# Altium footprint library FishWand_pcbLib.PcbLib: 35 footprints (part 1 of 3)
Each footprint in its own frame and in the unit in brackets; x right, y up, seen from the top. Pads: shape width x height; smd on the part's side, far side on the other; paste and mask are expansions set on the pad; w line width, h text height; cw(c..) or ccw(c..) is an arc to the next point about the centre after c.
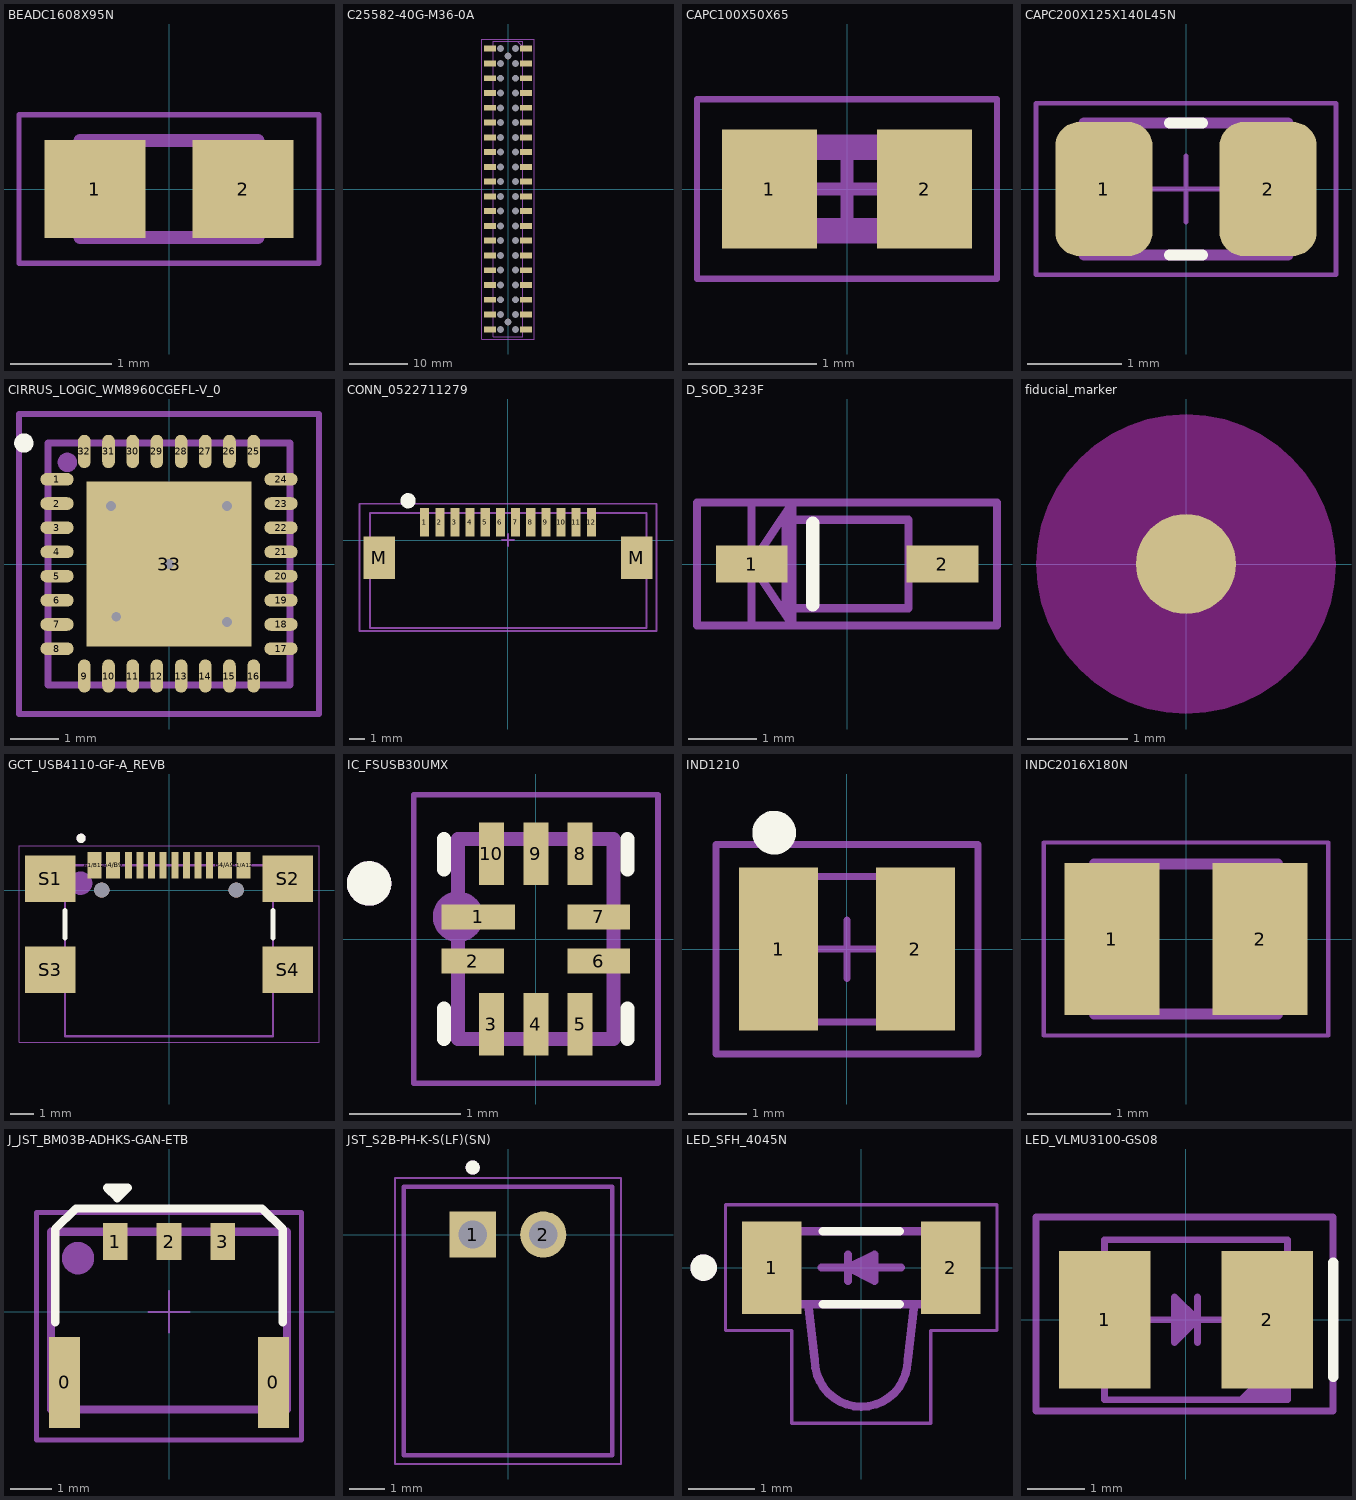
[diagram p0: the footprints below, top view; thin cyan lines are the x and y axes]

## BEADC1608X95N [mm]
pads (2):
  rect 1x0.97 smd: 1(-0.735,0) 2(0.735,0)
Assembly Text Top:
  text ".Designator" at -1.2,-0.2 h1
Assembly Top:
  lines w0.05: -1.485,-0.735 1.485,-0.735 1.485,0.735 -1.485,0.735 -1.485,-0.735
3D Top:
  lines w0.127: -0.88,-0.48 -0.88,0.48 0.88,0.48 0.88,-0.48 -0.88,-0.48
Courtyard Top:
  lines w0.05: -1.485,-0.735 -1.485,0.735 1.485,0.735 1.485,-0.735 -1.485,-0.735
3D body: height 0.75, standoff 0, extent -0.88,-0.48 0.88,0.48

## C25582-40G-M36-0A [mm] "Header, 40 Position, 2.54 mm Pitch, Shrouded, Female, Receptacle, Vertical, SMD"
height 3.8
pads (83):
  rect 2.1x1.02 smd: 1(3.1,24.13) 2(-3.1,24.13) 3(3.1,21.59) 4(-3.1,21.59) 5(3.1,19.05) 6(-3.1,19.05) 7(3.1,16.51) 8(-3.1,16.51) 9(3.1,13.97) 10(-3.1,13.97) 11(3.1,11.43) 12(-3.1,11.43) 13(3.1,8.89) 14(-3.1,8.89) 15(3.1,6.35) 16(-3.1,6.35) 17(3.1,3.81) 18(-3.1,3.81) 19(3.1,1.27) 20(-3.1,1.27) 21(3.1,-1.27) 22(-3.1,-1.27) 23(3.1,-3.81) 24(-3.1,-3.81) 25(3.1,-6.35) 26(-3.1,-6.35) 27(3.1,-8.89) 28(-3.1,-8.89) 29(3.1,-11.43) 30(-3.1,-11.43) 31(3.1,-13.97) 32(-3.1,-13.97) 33(3.1,-16.51) 34(-3.1,-16.51) 35(3.1,-19.05) 36(-3.1,-19.05) 37(3.1,-21.59) 38(-3.1,-21.59) 39(3.1,-24.13) 40(-3.1,-24.13)
  rect 0x0 hole 1.2 unplated: ""(-1.27,-24.13) ""(-1.27,-21.59) ""(-1.27,-19.05) ""(-1.27,-16.51) ""(-1.27,-13.97) ""(-1.27,-11.43) ""(-1.27,-8.89) ""(-1.27,-6.35) ""(-1.27,-3.81) ""(-1.27,-1.27) ""(-1.27,1.27) ""(-1.27,3.81) ""(-1.27,6.35) ""(-1.27,8.89) ""(-1.27,8.89) ""(-1.27,11.43) ""(-1.27,13.97) ""(-1.27,16.51) ""(-1.27,19.05) ""(-1.27,21.59) ""(-1.27,24.13) ""(0,-22.86) ""(0,22.86) ""(1.27,-24.13) ""(1.27,-21.59) ""(1.27,-19.05) ""(1.27,-16.51) ""(1.27,-13.97) ""(1.27,-11.43) ""(1.27,-8.89) ""(1.27,-6.35) ""(1.27,-3.81) ""(1.27,-1.27) ""(1.27,1.27) ""(1.27,3.81) ""(1.27,6.35) ""(1.27,8.89) ""(1.27,11.43) ""(1.27,13.97) ""(1.27,16.51) ""(1.27,19.05) ""(1.27,21.59) ""(1.27,24.13)
Assembly Text Top:
  text ".designator" at 0,0 h2
Assembly Top:
  lines w0.12: -2.54,-25.4 -2.54,25.4 1.6,25.4 2.54,24.46 2.54,-25.4 -2.54,-25.4
3D Top:
  lines w0.12: -2.54,-25.4 2.54,-25.4 2.54,25.4 -2.54,25.4 -2.54,-25.4
Courtyard Top:
  lines w0.12: -4.5,-25.8 4.5,-25.8 4.5,25.8 -4.5,25.8 -4.5,25.5 -4.5,-25.6 -4.5,-25.8
3D body: height 3.8, standoff 0, extent -2.54,-25.4 2.54,25.4

## CAPC100X50X65 [mm] "0402"
height 0.65
pads (2):
  rect 0.74x0.93 smd: 1(-0.605,0) 2(0.605,0)
Assembly Text Top:
  text ".designator" at -0.8,-0.2 h1
Assembly Top:
  lines w0.05: -1.17,-0.7 -1.17,0.7 1.17,0.7 1.17,-0.7 -1.17,-0.7
3D Top:
  lines w0.2: -0.575,-0.325 0.575,-0.325 0.575,0.325 -0.575,0.325 -0.575,-0.325
Courtyard Top:
  lines w0.05: -1.17,-0.7 1.17,-0.7 1.17,0.7 -1.17,0.7 -1.17,-0.7
  lines w0.1: -0.325,0 0.325,0 ; 0,-0.325 0,0.325
3D body: height 0.65, standoff 0, extent 0.325,-0.325 0.575,0.325
3D body: height 0.65, standoff 0, extent -0.575,-0.325 -0.325,0.325
3D body: height 0.65, standoff 0, extent -0.325,-0.325 0.325,0.325

## CAPC200X125X140L45N [mm] "Capacitor, Chip; 2.00 mm L X 1.25 mm W X 1.40 mm H body"
height 1.4
pads (2):
  rrect49% 1.03x1.42 smd: 1(-0.87,0) 2(0.87,0)
Top Overlay:
  lines w0.12: -0.175,-0.7 0.175,-0.7 ; -0.175,0.7 0.175,0.7
Assembly Text Top:
  text ".Designator" at -0.9,-0.4 h1
Assembly Top:
  lines w0.05: -1.59,-0.91 1.59,-0.91 1.59,0.91 -1.59,0.91 -1.59,-0.91
3D Top:
  lines w0.12: -1.08,-0.7 -1.08,0.7 1.08,0.7 1.08,-0.7 -1.08,-0.7
Courtyard Top:
  lines w0.05: -0.35,0 0.35,0 ; 0,-0.35 0,0.35 ; -1.59,-0.91 -1.59,0.91 1.59,0.91 1.59,-0.91 -1.59,-0.91
3D body: height 1.4, standoff 0, extent -1.075,-0.7 1.075,0.7

## CIRRUS_LOGIC_WM8960CGEFL-V_0 [mm]
pads (33):
  oval 0.69x0.26 smd: 1(-2.315,1.75)
  rrect100% 0.69x0.26 smd: 2(-2.315,1.25) 3(-2.315,0.75) 4(-2.315,0.25) 5(-2.315,-0.25) 6(-2.315,-0.75) 7(-2.315,-1.25) 8(-2.315,-1.75) 17(2.315,-1.75) 18(2.315,-1.25) 19(2.315,-0.75) 20(2.315,-0.25) 21(2.315,0.25) 22(2.315,0.75) 23(2.315,1.25) 24(2.315,1.75)
  rrect100% 0.26x0.69 smd: 9(-1.75,-2.315) 10(-1.25,-2.315) 11(-0.75,-2.315) 12(-0.25,-2.315) 13(0.25,-2.315) 14(0.75,-2.315) 15(1.25,-2.315) 16(1.75,-2.315) 25(1.75,2.326) 26(1.25,2.326) 27(0.75,2.326) 28(0.25,2.326) 29(-0.25,2.326) 30(-0.75,2.326) 31(-1.25,2.326) 32(-1.75,2.326)
  rect 3.4x3.4 smd paste-5: 33(0,0)
via -1.2,1.2 diameter 0.6 hole 0.2
via 1.2,1.2 diameter 0.6 hole 0.2
via -1.091,-1.091 diameter 0.6 hole 0.2
via 0,0 diameter 0.6 hole 0.2
via 1.2,-1.2 diameter 0.6 hole 0.2
Top Overlay:
  circle w0.2: c-3,2.5 r0.1
Top Paste:
  region: -1.091,-1.091 -1.091,1.091 1.091,1.091 1.091,-1.091
Assembly Text Top:
  text ".Designator" at -1.4,-0.2 h1.25
Assembly Top:
  circle w0.2: c-2.1,2.1 r0.1
  lines w0.15: -2.5,-2.5 2.5,-2.5 2.5,2.5 -2.5,2.5 -2.5,-2.5
3D Top:
  lines w0.12: -2.5,-2.5 -2.5,2.5 2.5,2.5 2.5,-2.5 -2.5,-2.5
Courtyard Top:
  lines w0.12: -3.1,-3.1 3.1,-3.1 3.1,3.1 -2.5,3.1 -3.1,3.1 -3.1,-3.1
3D body: height 1, standoff 0, extent -2.5,-2.5 2.5,2.5
3D body: height 1.01, standoff 0, extent -2.279,1.95 -1.98,2.25

## CONN_0522711279 [mm] "Molex 0522711279"
height 2.7
pads (14):
  rect 0.6x1.9 smd: 1(-5.5,1.175) 2(-4.5,1.175) 3(-3.5,1.175) 4(-2.5,1.175) 5(-1.5,1.175) 6(-0.5,1.175) 7(0.5,1.175) 8(1.5,1.175) 9(2.5,1.175) 10(3.5,1.175) 11(4.5,1.175) 12(5.5,1.175)
  rect 2.1x2.8 smd: M(-8.5,-1.175) M(8.5,-1.175)
Top Overlay:
  circle w0.5: c-6.6,2.6 r0.25
Assembly Text Top:
  text ".designator" at -0.3,-1.7 h0.75
Assembly Top:
  lines w0.12: -9.1,-5.8 -9.1,1.8 9.15,1.8 9.15,-5.8 -9.1,-5.8
3D Top:
  lines w0.12: -9.1,-5.8 -9.1,1.8 9.15,1.8 9.15,-5.8 -9.1,-5.8
Courtyard Top:
  lines w0.12: -0.4,0 0.4,0 ; 0,-0.4 0,0.4 ; -9.8,-6 9.8,-6 9.8,2.4 -3,2.4 -9.8,2.4 -9.8,-6
3D body: height 2.73, standoff 0.03, extent -9.15,-5.8 9.15,1.8

## D_SOD_323F [mm]
pads (2):
  rect 1.05x0.55 smd: 1(-1.4,0) 2(1.4,0)
Top Overlay:
  lines w0.2: -0.5,-0.6 -0.5,0.6
Assembly Text Top:
  text ".Designator" at -0.5,-0.4 h1
Assembly Top:
  lines w0.12: -1.4,-0.9 -1.4,0.9 ; -2.2,-0.9 2.2,-0.9 2.2,0.9 -2.2,0.9 -2.2,-0.9 ; -1.4,0 -0.8,-0.9 -0.8,0.9 -1.4,0
3D Top:
  lines w0.12: -0.9,-0.65 -0.9,0.65 0.9,0.65 0.9,-0.65 -0.9,-0.65
Courtyard Top:
  lines w0.12: -2.2,-0.9 0.3,-0.9 2.2,-0.9 2.2,0.9 0,0.9 -2.2,0.9 -2.2,-0.9
3D body: height 1, standoff 0, extent -0.9,-0.65 0.9,0.65

## fiducial_marker [mm]
pads (2):
  round 1 smd paste-10 mask+1: ""(0,0)
  round 3 on Keep-Out paste-10 mask+3: ""(0,0)

## GCT_USB4110-GF-A_REVB [mm]
pads (18):
  rect 0.6x1.15 smd: A1/B12(-3.2,1.075) A4/B9(-2.4,1.075) B1/A12(3.2,1.075) B4/A9(2.4,1.075)
  rect 0.3x1.15 smd: A5(-1.25,1.075) A6(-0.25,1.075) A7(0.25,1.075) A8(1.25,1.075) B5(1.75,1.075) B6(0.75,1.075) B7(-0.75,1.075) B8(-1.75,1.075)
  rect 2.18x2 smd: S1(-5.11,0.5) S2(5.11,0.5) S3(-5.11,-3.43) S4(5.11,-3.43)
  round 0.65 hole 0.65 unplated: ""(-2.89,0) ""(2.89,0)
Top Overlay:
  circle w0.2: c-3.78,2.23 r0.1
  lines w0.2: -4.47,-2.07 -4.47,-0.86 ; 4.47,-2.07 4.47,-0.86
Assembly Text Top:
  text ".Designator" at -2.4,-2.9 h1.5
Assembly Top:
  circle w0.5: c-3.8,0.3 r0.25
  lines w0.1: -4.47,-6.28 -4.47,1.07 4.47,1.07 4.47,-6.28 -4.47,-6.28
3D Top:
  circle w0.2: c-3.78,2.23 r0.1
  lines w0.1: -4.47,-6.28 4.47,-6.28 4.47,1.07 -4.47,1.07 -4.47,-6.28
Courtyard Top:
  lines w0.05: -6.45,-6.53 -6.45,1.9 6.45,1.9 6.45,-6.53 -6.45,-6.53
3D body: height 3.29, standoff -0.67, extent -5.65,-6.28 5.65,1.4

## IC_FSUSB30UMX [mm]
pads (10):
  rect 0.663x0.225 smd: 1(-0.519,0.2)
  rect 0.563x0.225 smd: 2(-0.569,-0.2) 6(0.569,-0.2) 7(0.569,0.2)
  rect 0.225x0.563 smd: 3(-0.4,-0.768) 4(0,-0.768) 5(0.4,-0.768) 8(0.4,0.768) 9(0,0.768) 10(-0.4,0.768)
Top Overlay:
  circle w0.2: c-1.5,0.5 r0.1
  lines w0.127: -0.826,-0.9 -0.826,-0.626 ; -0.826,0.626 -0.826,0.9 ; 0.826,-0.9 0.826,-0.626 ; 0.826,0.626 0.826,0.9
Assembly Text Top:
  text ".Designator" at -0.5,-0.2 h1
Assembly Top:
  circle w0.254: c-0.7,0.2 r0.1
  lines w0.05: -1.1,-1.3 -1.1,1.3 1.1,1.3 1.1,-1.3 -1.1,-1.3
3D Top:
  circle w0.2: c-1.5,0.5 r0.1
  lines w0.127: -0.7,-0.9 0.7,-0.9 0.7,0.9 -0.7,0.9 -0.7,-0.9
Courtyard Top:
  lines w0.05: -1.1,-1.3 1.1,-1.3 1.1,1.3 -1.1,1.3 -1.1,-1.3
3D body: height 0.55, standoff 0, extent -0.7,-0.9 0.7,0.9

## IND1210 [mm] "1210 Inductor"
height 1.2
pads (2):
  rect 1.35x2.8 smd: 1(-1.175,0) 2(1.175,0)
Top Overlay:
  circle w0.45: c-1.25,2 r0.15
Assembly Text Top:
  text ".Designator" at -0.9,-0.3 h1.25
Assembly Top:
  lines w0.12: -1.6,-1.25 -1.6,0.9 -1.25,1.25 1.6,1.25 1.6,-1.25 -1.6,-1.25
3D Top:
  lines w0.05: -1.6,-1.25 -1.6,1.25 1.6,1.25 1.6,-1.25 -1.6,-1.25
Courtyard Top:
  lines w0.12: -0.5,0 0.5,0 ; 0,-0.5 0,0.5 ; -2.25,-1.8 -2.25,1.8 2.25,1.8 2.25,-1.8 -2.25,-1.8
3D body: height 1.2, standoff 0, extent -1.6,-1.25 1.6,1.25

## INDC2016X180N [mm]
pads (2):
  rect 1.14x1.82 smd: 1(-0.89,0) 2(0.89,0)
Assembly Text Top:
  text ".Designator" at -0.8,-0.4 h1
Assembly Top:
  lines w0.127: -1.1,-0.9 -1.1,0.6 -0.8,0.9 1.1,0.9 1.1,-0.9 -1.1,-0.9
3D Top:
  lines w0.127: -1.1,-0.9 1.1,-0.9 1.1,0.9 -1.1,0.9 -1.1,-0.9
Courtyard Top:
  lines w0.05: -1.708,-1.158 -1.708,1.158 1.708,1.158 1.708,-1.158 -1.708,-1.158

## J_JST_BM03B-ADHKS-GAN-ETB [mm] "CONN HEADER SMD R/A 3POS 1.3MM"
height 1.9
pads (5):
  rect 0.75x2.2 smd: 0(-2.525,-1.7) 0(2.525,-1.7)
  rect 0.6x0.9 smd: 1(-1.3,1.7) 2(0,1.7) 3(1.3,1.7)
Top Overlay:
  lines w0.2: -2.75,-0.25 -2.75,2 -2.25,2.5 2.25,2.5 2.75,2 2.75,-0.25 ; -1.5,3 -1,3 -1.25,2.75 -1.5,3
Assembly Text Top:
  text ".Designator" at 0,0 h1.2
Assembly Top:
  circle w0.5: c-2.2,1.3 r0.141
  lines w0.2: -2.849,-2.36 2.851,-2.36 2.851,1.94 -2.849,1.94 -2.849,-2.36
3D Top:
  lines w0.2: -2.849,-2.36 -2.849,1.94 2.851,1.94 2.851,-2.36 -2.849,-2.36
Courtyard Top:
  lines w0.05: -0.5,0 0.5,0 ; 0,-0.5 0,0.5
  lines w0.12: -3.2,-3.1 -3.2,2.4 3.2,2.4 3.2,-3.1 -3.2,-3.1
3D body: height 1.79, standoff 0.01, extent -2.849,-2.36 2.851,1.94

## JST_S2B-PH-K-S(LF)(SN) [mm]
pads (2):
  rect 1.308x1.308 hole 0.8: 1(-1,0)
  round 1.308 hole 0.8: 2(1,0)
Top Overlay:
  circle w0.2: c-1,1.9 r0.1
Assembly Text Top:
  text ".designator" at -0.4,-2.8 h0.75
Assembly Top:
  lines w0.12: -2.95,-6.25 -2.95,1.35 2.95,1.35 2.95,-6.25 -2.95,-6.25
3D Top:
  circle w0.2: c-1,1.9 r0.1
  lines w0.127: -2.95,-6.25 -2.95,1.35 2.95,1.35 2.95,-6.25 -2.95,-6.25
Courtyard Top:
  lines w0.05: -3.2,-6.5 -3.2,1.6 3.2,1.6 3.2,-6.5 -3.2,-6.5
3D body: height 4.83, standoff -3.36, extent -2.95,-6.203 2.95,1.397

## LED_SFH_4045N [mm]
pads (2):
  rect 0.9x1.4 smd: 1(-1.35,0) 2(1.35,0)
Top Overlay:
  circle w0.2: c-2.38,0 r0.1
  lines w0.127: -0.58,-0.55 0.58,-0.55 ; -0.58,0.55 0.58,0.55
Assembly Text Top:
  text ".designator" at -1,-0.2 h1
Assembly Top:
  circle w0.2: c-2.38,0 r0.1
  region: -0.2,0 0,0.1 0.2,0.2 0.2,-0.2
  lines w0.12: -0.6,0 0.6,0 ; -0.2,-0.2 -0.2,0.2 ; -0.2,0 0.2,-0.2 0.2,0.2 -0.2,0
  lines w0.127: -0.8,-0.55 0.8,-0.55 ; -0.8,-0.55 -1.5,-0.55 -1.5,0.55 1.5,0.55 1.5,-0.55 0.8,-0.55 ; -0.8,-0.55 -0.7,-1.4 ccw(c0,-1.4) 0,-2.1 ccw(c0,-1.4) 0.7,-1.4 0.8,-0.55
3D Top:
  circle w0.2: c-2.38,0 r0.1
  lines w0.127: -0.8,-0.55 -0.7,-1.4 ccw(c0,-1.4) 0,-2.1 ccw(c0,-1.4) 0.7,-1.4 0.8,-0.55 ; -0.8,-0.55 -1.5,-0.55 -1.5,0.55 1.5,0.55 1.5,-0.55 0.8,-0.55 ; -0.8,-0.55 0.8,-0.55
Courtyard Top:
  lines w0.05: -2.05,-0.95 -2.05,0.95 2.05,0.95 2.05,-0.95 1.05,-0.95 1.05,-2.35 -1.05,-2.35 -1.05,-0.95 -2.05,-0.95
3D body: height 1.23, standoff 0.03, extent -1.5,-2.1 1.5,0.65

## LED_VLMU3100-GS08 [mm] "EMITTER UV 405NM 30MA PLCC"
height 1.9
pads (2):
  rect 1.6x2.4 smd: 1(-1.425,0) 2(1.425,0)
Top Overlay:
  lines w0.18: 2.575,-1 2.575,1
Assembly Text Top:
  text ".designator" at -0.6,-0.2 h1
Assembly Top:
  region: 0.975,-1.4 1.775,-0.6 1.775,-1.4
  region: -0.2,0.4 0.2,0 -0.2,-0.4
  lines w0.12: -0.8,0 0.8,0 ; 0.2,-0.4 0.2,0.4 ; 0.975,-1.4 1.775,-0.6 ; -1.425,-1.4 -1.425,1.4 1.775,1.4 1.775,-1.4 -1.425,-1.4 ; -0.2,-0.4 -0.2,0.4 0.2,0 -0.2,-0.4
3D Top:
  lines w0.12: -1.425,-1.4 1.775,-1.4 1.775,1.4 -1.425,1.4 -1.425,-1.4
Courtyard Top:
  lines w0.12: -2.625,-1.6 -2.625,1.8 2.575,1.8 2.575,-1.6 -2.625,-1.6
3D body: height 1.95, standoff 0, extent -1.425,-1.4 1.775,1.4